# EAGLE library part W237-6 (library amit_screw_terminal_23)
WAGO SCREW CLAMP
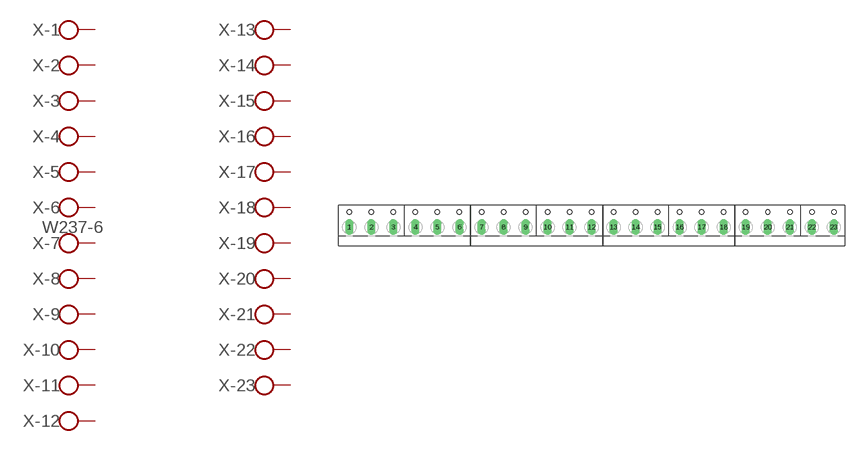
[diagram p1: symbol with the pads of W237-6; footprint W237-6]

Designator prefix X; gates -1=KL -2=KL -3=KL -4=KL -5=KL -6=KL+V -7=KL -8=KL -9=KL -10=KL -11=KL -12=KL -13=KL -14=KL -15=KL -16=KL -17=KL -18=KL -19=KL -20=KL -21=KL -22=KL -23=KL

## W237-6 (OC_FARNELL: unknown; OC_NEWARK: unknown)  [W237-6]
1  -1:KL  pas
2  -2:KL  pas
3  -3:KL  pas
4  -4:KL  pas
5  -5:KL  pas
6  -6:KL  pas
7  -7:KL  pas
8  -8:KL  pas
9  -9:KL  pas
10  -10:KL  pas
11  -11:KL  pas
12  -12:KL  pas
13  -13:KL  pas
14  -14:KL  pas
15  -15:KL  pas
16  -16:KL  pas
17  -17:KL  pas
18  -18:KL  pas
19  -19:KL  pas
20  -20:KL  pas
21  -21:KL  pas
22  -22:KL  pas
23  -23:KL  pas

## Footprint W237-6 (pad centres in mm)
WAGO SCREW CLAMP
drill 1.194 long: 1 -12.5,-1.27; 2 -7.5,-1.27; 3 -2.5,-1.27; 4 2.5,-1.27; 5 7.5,-1.27; 6 12.5,-1.27; 7 17.5,-1.27; 8 22.5,-1.27; 9 27.5,-1.27; 10 32.5,-1.27; 11 37.5,-1.27; 12 42.5,-1.27; 13 47.5,-1.27; 14 52.5,-1.27; 15 57.5,-1.27; 16 62.5,-1.27; 17 67.5,-1.27; 18 72.5,-1.27; 19 77.5,-1.27; 20 82.5,-1.27; 21 87.5,-1.27; 22 92.5,-1.27; 23 97.5,-1.27